# Altium footprint library flatsat_platform_2.PcbLib: 76 footprints (part 5 of 5)
Each footprint in its own frame and in the unit in brackets; x right, y up, seen from the top. Pads: shape width x height; smd on the part's side, far side on the other; paste and mask are expansions set on the pad; w line width, h text height; cw(c..) or ccw(c..) is an arc to the next point about the centre after c.
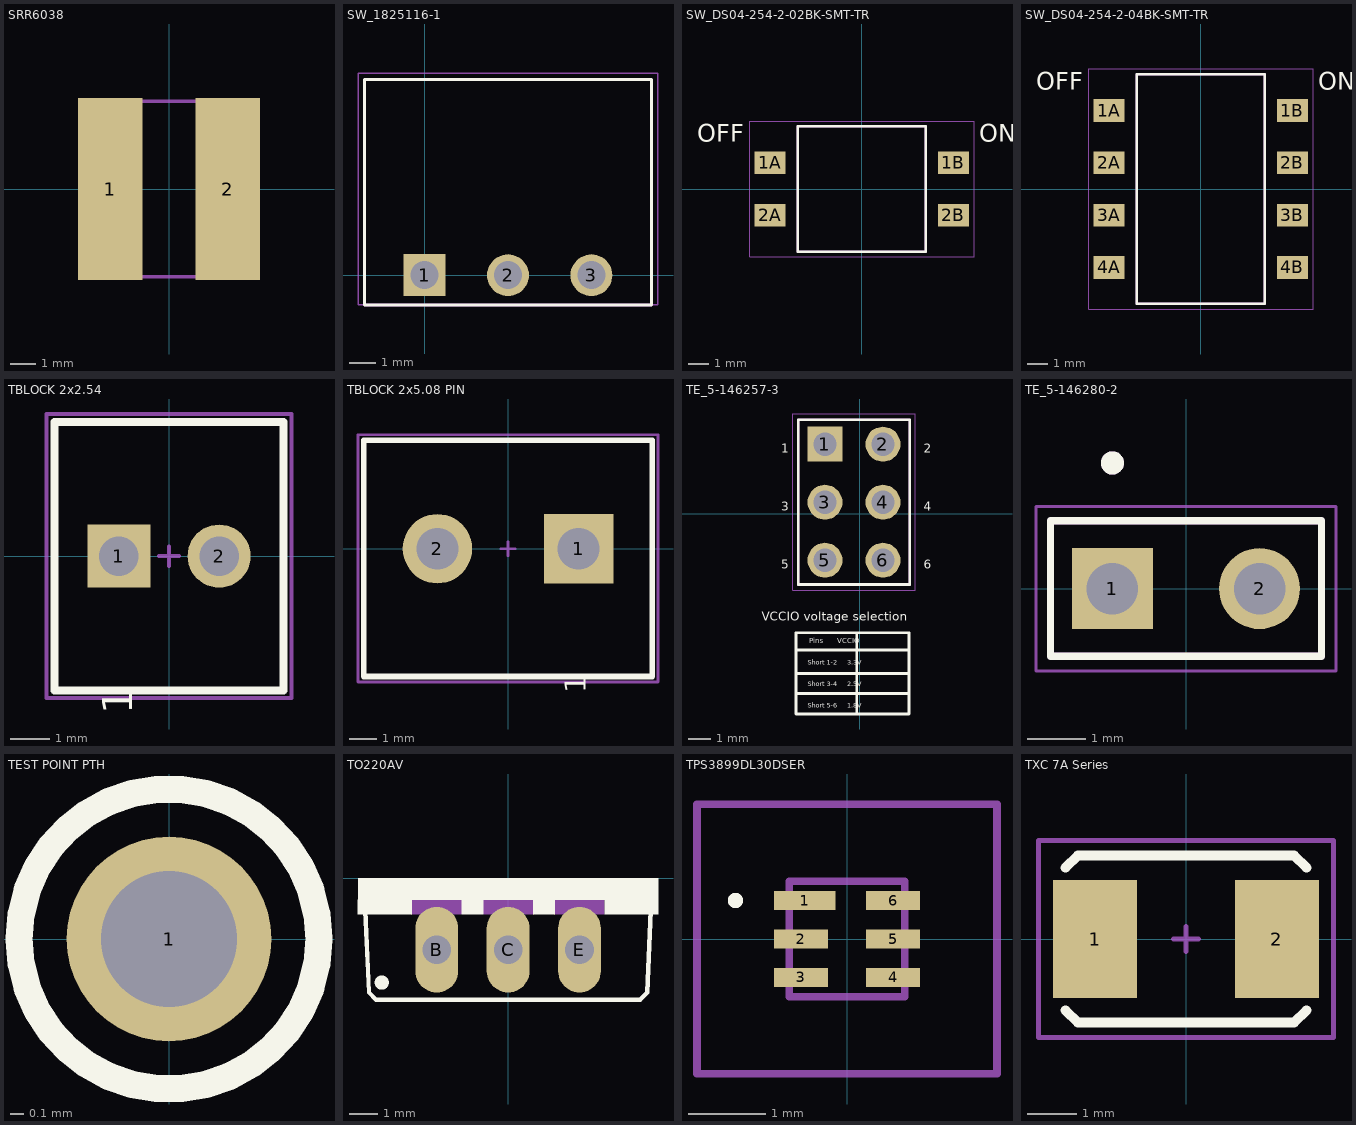
[diagram p4: the footprints below, top view; thin cyan lines are the x and y axes]

## SRR6038 [mil]
pads (2):
  rect 102x287 smd: 1(-92.5,0) 2(92.5,0)
Mechanical 13:
  lines w6: -138,-138 -138,138 138,138 138,-138 -138,-138
3D body "IND_BOURNS_SRR6038.step": height 158.11, standoff -0.12, extent -137.99,-138.1 138,138.12

## SW_1825116-1 [mm]
pads (3):
  rect 1.605x1.605 hole 1.07: 1(0,0)
  round 1.605 hole 1.07: 2(3.2,0) 3(6.4,0)
Top Overlay:
  lines w0.127: -2.3,-1.143 -2.3,7.5 8.7,7.5 8.7,-1.143 -2.3,-1.143
Mechanical 13:
  lines w0.127: -2.3,-1.143 -2.3,7.5 8.699,7.5 8.699,-1.143 -2.3,-1.143
Mechanical 15:
  lines w0.05: -2.55,-1.143 -2.55,7.75 8.95,7.75 8.95,-1.143 -2.55,-1.143
3D body "1825116-1.stp": height 5.61, standoff -4.15, extent -2.325,-0.261 8.675,12.239

## SW_DS04-254-2-02BK-SMT-TR [mm]
pads (4):
  rect 1.5x1.1 smd: 1A(-4.45,1.27) 1B(4.45,1.27) 2A(-4.45,-1.27) 2B(4.45,-1.27)
Top Overlay:
  lines w0.127: -3.1,-3.04 3.1,-3.04 3.1,3.04 -3.1,3.04 -3.1,-3.04
  text "OFF" at -8.001,2.286 h0.85
  text "ON" at 5.715,2.286 h0.85
Mechanical 13:
  lines w0.127: -3.1,-3.04 3.1,-3.04 3.1,3.04 -3.1,3.04 -3.1,-3.04
Mechanical 15:
  lines w0.05: -5.45,-3.29 -5.45,3.29 5.45,3.29 5.45,-3.29 -5.45,-3.29
3D body "CUI_DEVICES_DS04-254-2-02BK-SMT-TR.step": height 4.01, standoff 0.01, extent -4.95,-3.048 4.95,3.032

## SW_DS04-254-2-04BK-SMT-TR [mm]
pads (8):
  rect 1.5x1.1 smd: 1A(-4.45,3.81) 1B(4.45,3.81) 2A(-4.45,1.27) 2B(4.45,1.27) 3A(-4.45,-1.27) 3B(4.45,-1.27) 4A(-4.45,-3.81) 4B(4.45,-3.81)
Top Overlay:
  lines w0.127: -3.1,-5.58 3.1,-5.58 3.1,5.58 -3.1,5.58 -3.1,-5.58
  text "ON" at 5.715,4.826 h0.85
  text "OFF" at -8.001,4.826 h0.85
Mechanical 13:
  lines w0.127: -3.1,-5.58 3.1,-5.58 3.1,5.58 -3.1,5.58 -3.1,-5.58
Mechanical 15:
  lines w0.05: -5.45,-5.83 -5.45,5.83 5.45,5.83 5.45,-5.83 -5.45,-5.83
3D body "CUI_DEVICES_DS04-254-2-04BK-SMT-TR.step": height 4.01, standoff 0.01, extent -4.95,-5.572 4.95,5.588

## TBLOCK 2x2.54 [mm]
pads (2):
  rect 1.6x1.6 hole 1: 1(-1.27,0)
  round 1.6 hole 1: 2(1.27,0)
Top Overlay:
  lines w0.2: -2.9,-3.4 2.9,-3.4 2.9,3.4 -2.9,3.4 -2.9,-3.4
  text "1" at -0.93,-4 h0.76
Mechanical 15:
  lines w0.1: -0.25,0 0.25,0 ; 0,-0.25 0,0.25 ; -3.1,-3.6 -3.1,3.6 3.1,3.6 3.1,-3.6 -3.1,-3.6
3D body "c-282834-2-c-3d.STEP": height 10.1, standoff -3.3, extent -2.77,-3.25 2.77,3.25

## TBLOCK 2x5.08 PIN [mm]
pads (2):
  rect 2.5x2.5 hole 1.5: 1(2.54,0)
  round 2.5 hole 1.5: 2(-2.54,0)
Top Overlay:
  lines w0.2: -5.2,-4.6 -3.3,-4.6 5.2,-4.6 5.2,3.9 -5.2,3.9 -5.2,-4.6
  text "1" at 2.8,-5.2 h0.76
Mechanical 15:
  lines w0.1: -0.25,0 0.25,0 ; 0,-0.25 0,0.25 ; -5.4,-4.8 -5.4,4.1 5.4,4.1 5.4,-4.8 -5.4,-4.8
3D body "User Library-Terminal Block 2x5_08mm.step": height 12.1, standoff -4.5, extent -5.08,-4.45 5.08,3.75

## TE_5-146257-3 [mm]
pads (6):
  rect 1.53x1.53 hole 1.02: 1(-1.524,3.048)
  round 1.53 hole 1.02: 2(1.016,3.048) 3(-1.524,0.508) 4(1.016,0.508) 5(-1.524,-2.032) 6(1.016,-2.032)
Top Overlay:
  lines w0.127: -2.794,-7.874 2.159,-7.874 ; -2.794,-6.985 2.159,-6.985 ; -2.794,-5.969 2.159,-5.969 ; -2.794,-5.21 -2.794,-8.763 -1.778,-8.763 2.159,-8.763 ; -2.794,-5.207 2.159,-5.207 2.159,-8.758 ; -0.133,-8.761 -0.133,-5.21 ; -2.694,-3.102 -2.694,4.118 2.186,4.118 2.186,-3.102 -2.694,-3.102
  text "6" at 2.794,-2.413 h0.38
  text "5" at -3.429,-2.413 h0.38
  text "4" at 2.794,0.127 h0.38
  text "3" at -3.429,0.127 h0.38
  text "2" at 2.794,2.667 h0.38
  text "1" at -3.429,2.667 h0.38
  text "Pins       VCCIO" at -2.202,-5.659 h0.23
  text "VCCIO voltage selection" at -4.293,-4.674 h0.38
  text "Short 1-2     3.3V" at -2.286,-6.604 h0.2
  text "Short 3-4     2.5V" at -2.283,-7.557 h0.2
  text "Short 5-6     1.8V" at -2.283,-8.491 h0.2
Mechanical 13:
  lines w0.127: -2.694,-3.102 -2.694,4.118 2.186,4.118 2.186,-3.102 -2.694,-3.102
Mechanical 15:
  lines w0.05: -2.944,-3.352 -2.944,4.368 2.436,4.368 2.436,-3.352 -2.944,-3.352
3D body "5-146257-3--3DModel-STEP-1.STEP": height 8.14, standoff -3.04, extent -2.692,-3.099 2.184,4.115

## TE_5-146280-2 [mm]
pads (2):
  rect 1.398x1.398 hole 0.89: 1(-1.27,0)
  round 1.398 hole 0.89: 2(1.27,0)
Top Overlay:
  circle w0.2: c-1.27,2.17 r0.1
  lines w0.127: -2.34,-1.17 2.34,-1.17 2.34,1.17 -2.34,1.17 -2.34,-1.17
Mechanical 13:
  circle w0.2: c-1.27,2.17 r0.1
  lines w0.127: -2.34,-1.17 2.34,-1.17 2.34,1.17 -2.34,1.17 -2.34,-1.17
Mechanical 15:
  lines w0.05: -2.59,-1.42 2.59,-1.42 2.59,1.42 -2.59,1.42 -2.59,-1.42
3D body "5-146280-2--3DModel-STEP-1.STEP": height 8.14, standoff -3.04, extent -2.337,-1.168 2.337,1.168

## TEST POINT PTH [mm]
pads (1):
  round 1.5 hole 1: 1(0,0)
Top Overlay:
  circle w0.2: c0,0 r1.1

## TO220AV [mil]
pads (3):
  oval 60x120 hole 40: B(-100,-100) C(0,-100) E(100,-100)
Top Overlay:
  circle w10: c-177,-146 r5
  region: 210,-30.05 -210.35,-30.05 -210.35,0 210,0
  region: -135,-50.02 -210.35,-50.02 -210.35,-30 -135,-30
  region: -35,-50.06 -65.08,-50.06 -65.08,-30 -35,-30
  region: 65,-50.06 35.04,-50.06 35.04,-30 65,-30
  region: 210,-50.02 135.05,-50.02 135.05,-30 210,-30
  lines w6: -200,-45 -195,-160 -185,-170 185,-170 195,-160 200,-45
Mechanical 13:
  region: -65,-50.01 -135.01,-50.01 -135.01,-30 -65,-30
  region: 35,-50.03 -35.02,-50.03 -35.02,-30 35,-30
  region: 135,-50.06 65.08,-50.06 65.08,-30 135,-30
3D body "TIP41C.STEP": height 617.19, standoff -531.41, extent -200.79,-215 200.79,56.34

## TPS3899DL30DSER [mm]
pads (6):
  rect 0.8x0.25 smd: 1(-0.55,0.5)
  rect 0.7x0.25 smd: 2(-0.6,0) 3(-0.6,-0.5) 4(0.6,-0.5) 5(0.6,0) 6(0.6,0.5)
Top Overlay:
  lines w0.1: -1.5,0.5 ccw(c-1.45,0.5) -1.4,0.5 ccw(c-1.45,0.5) -1.5,0.5
Mechanical 13:
  lines w0.1: -0.75,-0.75 -0.75,0.75 0.75,0.75 0.75,-0.75 -0.75,-0.75
Mechanical 15:
  lines w0.1: -1.95,-1.75 -1.95,1.75 1.95,1.75 1.95,-1.75 -1.95,-1.75
3D body "TPS3899DL30DSER.stp": height 0.9, standoff 0, extent -0.75,-0.75 0.75,0.75

## TXC 7A Series [mm]
height 0.9
pads (2):
  rect 1.7x2.4 smd: 1(-1.85,0) 2(1.85,0)
Top Overlay:
  lines w0.2: -2.45,-1.45 -2.2,-1.7 2.2,-1.7 2.45,-1.45 ; -2.45,1.45 -2.2,1.7 2.2,1.7 2.45,1.45
Top Assembly:
  lines w0.1: -0.25,0 0.25,0 ; 0,-0.25 0,0.25 ; -3,-2 3,-2 3,2 -3,2 -3,-2
  text "'.Designator'" at -2.5,0.75 h0.8
3D body "User Library-445-CRYTAL-SMD.STEP": height 1.35, standoff 0, extent -2.5,-1.6 2.5,1.6